# EAGLE library part LTC1983* (library NewSDR)
Linear Technology 100mA Regulated Charge Pump Inverters in Thin SOT
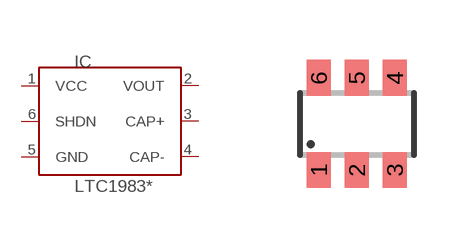
[diagram p144: symbol with the pads of SOT23-6; footprint SOT23-6]

Designator prefix IC

## LTC1983-3, LTC1983-5  [SOT23-6]
1  VCC  pas
2  VOUT  pwr
3  CAP+  in
4  CAP-  pwr
5  GND  pwr
6  SHDN  pas

## Footprint SOT23-6 (pad centres in mm)
Small Outline Transistor 6 lead
smd 0.6 x 0.9: 1 -0.95,-1.15; 2 0,-1.15; 3 0.95,-1.15; 4 0.95,1.15; 5 0,1.15; 6 -0.95,1.15